# EAGLE library part GAN_GATED (library Jeremy_GaN)
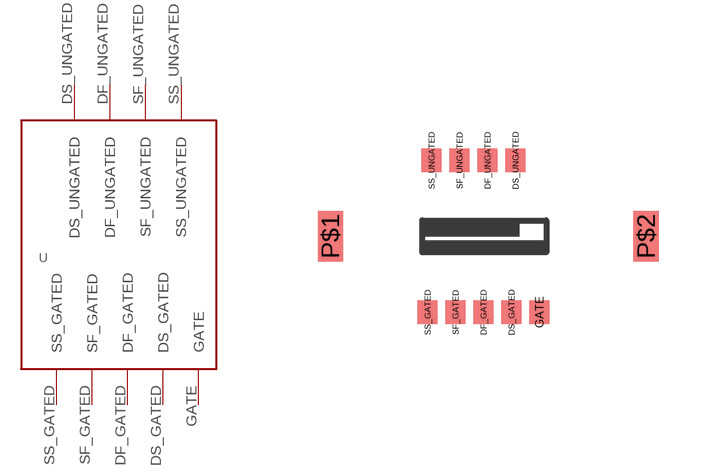
[diagram p3: symbol with the pads of GAN_GATED; footprint GAN_GATED]

Designator prefix -

## GAN_GATED  [GAN_GATED]
DF_GATED  DF_GATED  pwr
DF_UNGATED  DF_UNGATED  pwr
DS_GATED  DS_GATED
DS_UNGATED  DS_UNGATED
GATE  GATE
SF_GATED  SF_GATED  pwr
SF_UNGATED  SF_UNGATED  pwr
SS_GATED  SS_GATED
SS_UNGATED  SS_UNGATED

## Footprint GAN_GATED (pad centres in mm)
smd 0.5 x 0.6: DF_GATED 1.53,-1.5; DF_UNGATED 1.63,2.3; DS_GATED 2.23,-1.5; DS_UNGATED 2.33,2.3; GATE 2.93,-1.5; SF_GATED 0.83,-1.5; SF_UNGATED 0.93,2.3; SS_GATED 0.13,-1.5; SS_UNGATED 0.23,2.3
smd 0.635 x 1.27: P$1 -2.3,0.4; P$2 5.6,0.4